# EAGLE library part PIN-1X7 (library alvie)
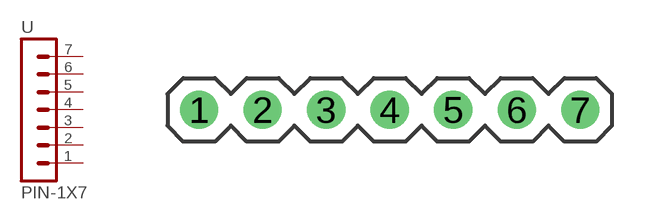
[diagram p48: symbol with the pads of PIN-1X7; footprint PIN-1X7]

Designator prefix -

## PIN-1X7  [PIN-1X7]
1  1  pas
2  2  pas
3  3  pas
4  4  pas
5  5  pas
6  6  pas
7  7  pas

## Footprint PIN-1X7 (pad centres in mm)
drill 1.016: 1 -7.62,0; 2 -5.08,0; 3 -2.54,0; 4 0,0; 5 2.54,0; 6 5.08,0; 7 7.62,0